# Altium footprint library LMC555new.PcbLib: 1 footprints
Each footprint in its own frame and in the unit in brackets; x right, y up, seen from the top. Pads: shape width x height; smd on the part's side, far side on the other; paste and mask are expansions set on the pad; w line width, h text height; cw(c..) or ccw(c..) is an arc to the next point about the centre after c.
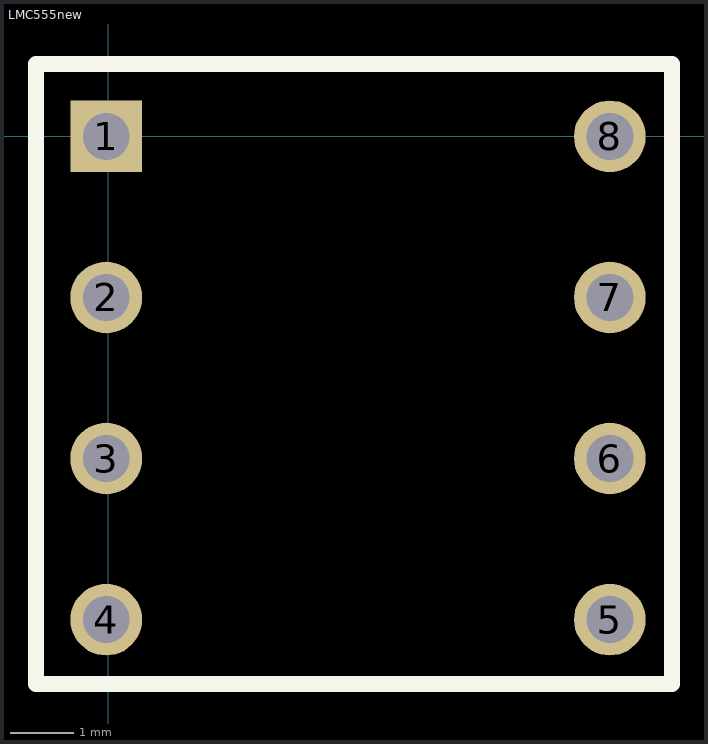
[diagram p0: the footprint, top view; thin cyan lines are the x and y axes]

## LMC555new [mm]
pads (8):
  rect 1.13x1.13 hole 0.74: 1(-0.033,0)
  round 1.13 hole 0.74: 2(-0.033,-2.54) 3(-0.033,-5.08) 4(-0.033,-7.62) 5(7.907,-7.62) 6(7.907,-5.08) 7(7.907,-2.54) 8(7.907,0)
Top Overlay:
  lines w0.254: -0.889,1.143 8.89,1.143 8.89,-8.636 -1.143,-8.636 -1.143,1.143 -0.635,1.143